# Altium footprint library res_tht_fp_lib.PcbLib: 1 footprints
Each footprint in its own frame and in the unit in brackets; x right, y up, seen from the top. Pads: shape width x height; smd on the part's side, far side on the other; paste and mask are expansions set on the pad; w line width, h text height; cw(c..) or ccw(c..) is an arc to the next point about the centre after c.
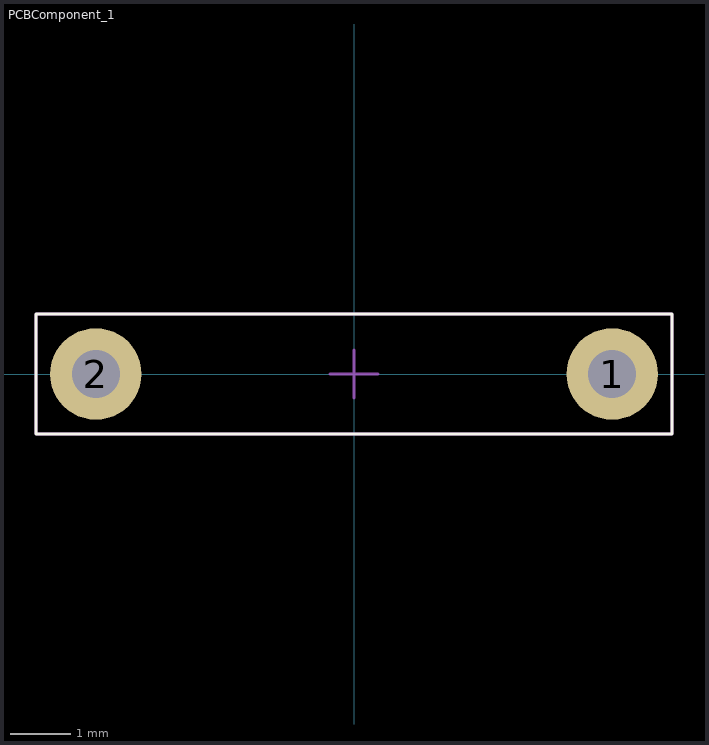
[diagram p0: the footprint, top view; thin cyan lines are the x and y axes]

## PCBComponent_1 [mil]
pads (2):
  round 60 hole 31.5: 1(169.29,0) 2(-169.29,0)
Top Layer:
Top Overlay:
  lines w1.97: -208.66,-39.37 208.66,-39.37 208.66,39.37 -208.66,39.37 -208.66,-39.37
Mechanical 15:
  lines w1.97: -15.75,0 15.75,0 ; 0,-15.75 0,15.75 ; -208.66,-39.37 208.66,-39.37 208.66,39.37 -208.66,39.37 -208.66,-39.37
3D body "Resistor.STEP": height 78.45, standoff -196.85, extent -183.07,-39.37 185.59,39.37